# EAGLE library part TINY26* (library mpx5010dp)
8-bit AVR Microcontroller with 2K Bytes Flash Source: http://www.atmel.com .. doc1477.pdf
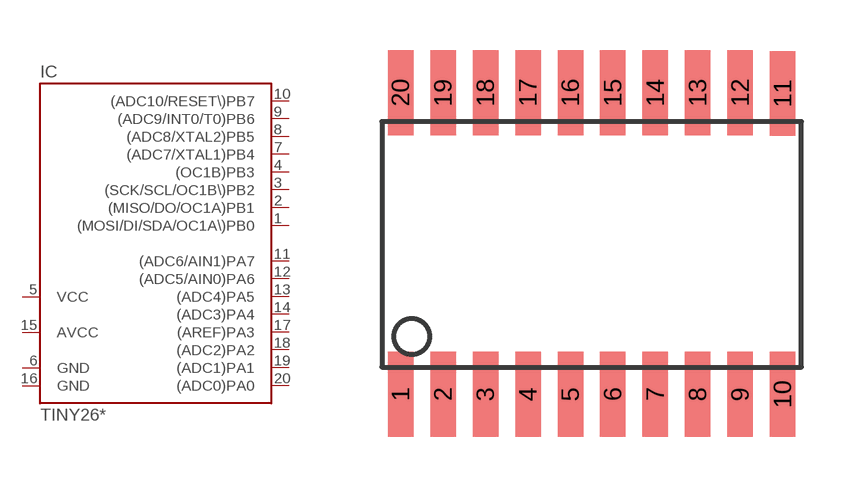
[diagram p1: symbol with the pads of SO20L; footprint SO20L]

Designator prefix IC

## TINY26S, TINY26LS  [SO20L]
1  (MOSI/DI/SDA/OC1A\)PB0
2  (MISO/DO/OC1A)PB1
3  (SCK/SCL/OC1B\)PB2
4  (OC1B)PB3
5  VCC  pwr
6  GND  pwr
7  (ADC7/XTAL1)PB4
8  (ADC8/XTAL2)PB5
9  (ADC9/INT0/T0)PB6
10  (ADC10/RESET\)PB7
11  (ADC6/AIN1)PA7
12  (ADC5/AIN0)PA6
13  (ADC4)PA5
14  (ADC3)PA4
15  AVCC  pwr
16  GND  pwr
17  (AREF)PA3
18  (ADC2)PA2
19  (ADC1)PA1
20  (ADC0)PA0

## Footprint SO20L (pad centres in mm)
Small Outline Package SOIC 0.300"
smd 0.762 x 2.54: 1 -5.08,-4.877; 2 -3.81,-4.877; 3 -2.54,-4.877; 4 -1.27,-4.877; 5 0,-4.877; 6 1.27,-4.877; 7 2.54,-4.877; 8 3.81,-4.877; 9 5.08,-4.877; 10 6.35,-4.877; 11 6.35,4.115; 12 5.08,4.14; 13 3.81,4.14; 14 2.54,4.14; 15 1.27,4.14; 16 0,4.14; 17 -1.27,4.14; 18 -2.54,4.14; 19 -3.81,4.14; 20 -5.08,4.14